# EAGLE library part LOGIC,D-FLIPFLOP,DUAL2 (library QuantumOptics)
Dual D-type flip-flop such as SN74AHCT74.
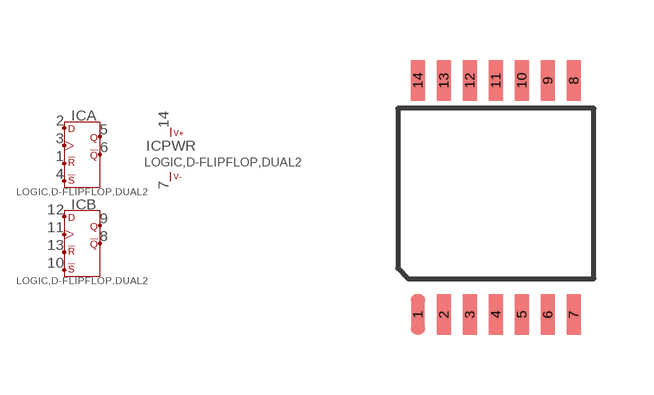
[diagram p150: symbol with the pads of TSSOP-14; footprint TSSOP-14]

Designator prefix IC; gates A=LOGIC,D-FLIPFLOP,SINGLE B=LOGIC,D-FLIPFLOP,SINGLE PWR=PWR+-

## LOGIC,D-FLIPFLOP,DUAL2  [TSSOP-14]
1  A:/R  in
2  A:D  in
3  A:CLK  in
4  A:/S  in
5  A:Q  out
6  A:/Q  out
7  PWR:V-
8  B:/Q  out
9  B:Q  out
10  B:/S  in
11  B:CLK  in
12  B:D  in
13  B:/R  in
14  PWR:V++

## Footprint TSSOP-14 (pad centres in mm)
TSSOP-14, pins 0.65mm c-c spacing, nominal 6.4mm rows.
smd 0.356 x 1.016: 1 0,-2.925; 2 0.65,-2.925; 3 1.3,-2.925; 4 1.95,-2.925; 5 2.6,-2.925; 6 3.25,-2.925; 7 3.9,-2.925; 8 3.9,2.925; 9 3.25,2.925; 10 2.6,2.925; 11 1.95,2.925; 12 1.3,2.925; 13 0.65,2.925; 14 0,2.925